# Altium footprint library MWKbasic1.PcbLib: 42 footprints (part 1 of 3)
Each footprint in its own frame and in the unit in brackets; x right, y up, seen from the top. Pads: shape width x height; smd on the part's side, far side on the other; paste and mask are expansions set on the pad; w line width, h text height; cw(c..) or ccw(c..) is an arc to the next point about the centre after c.
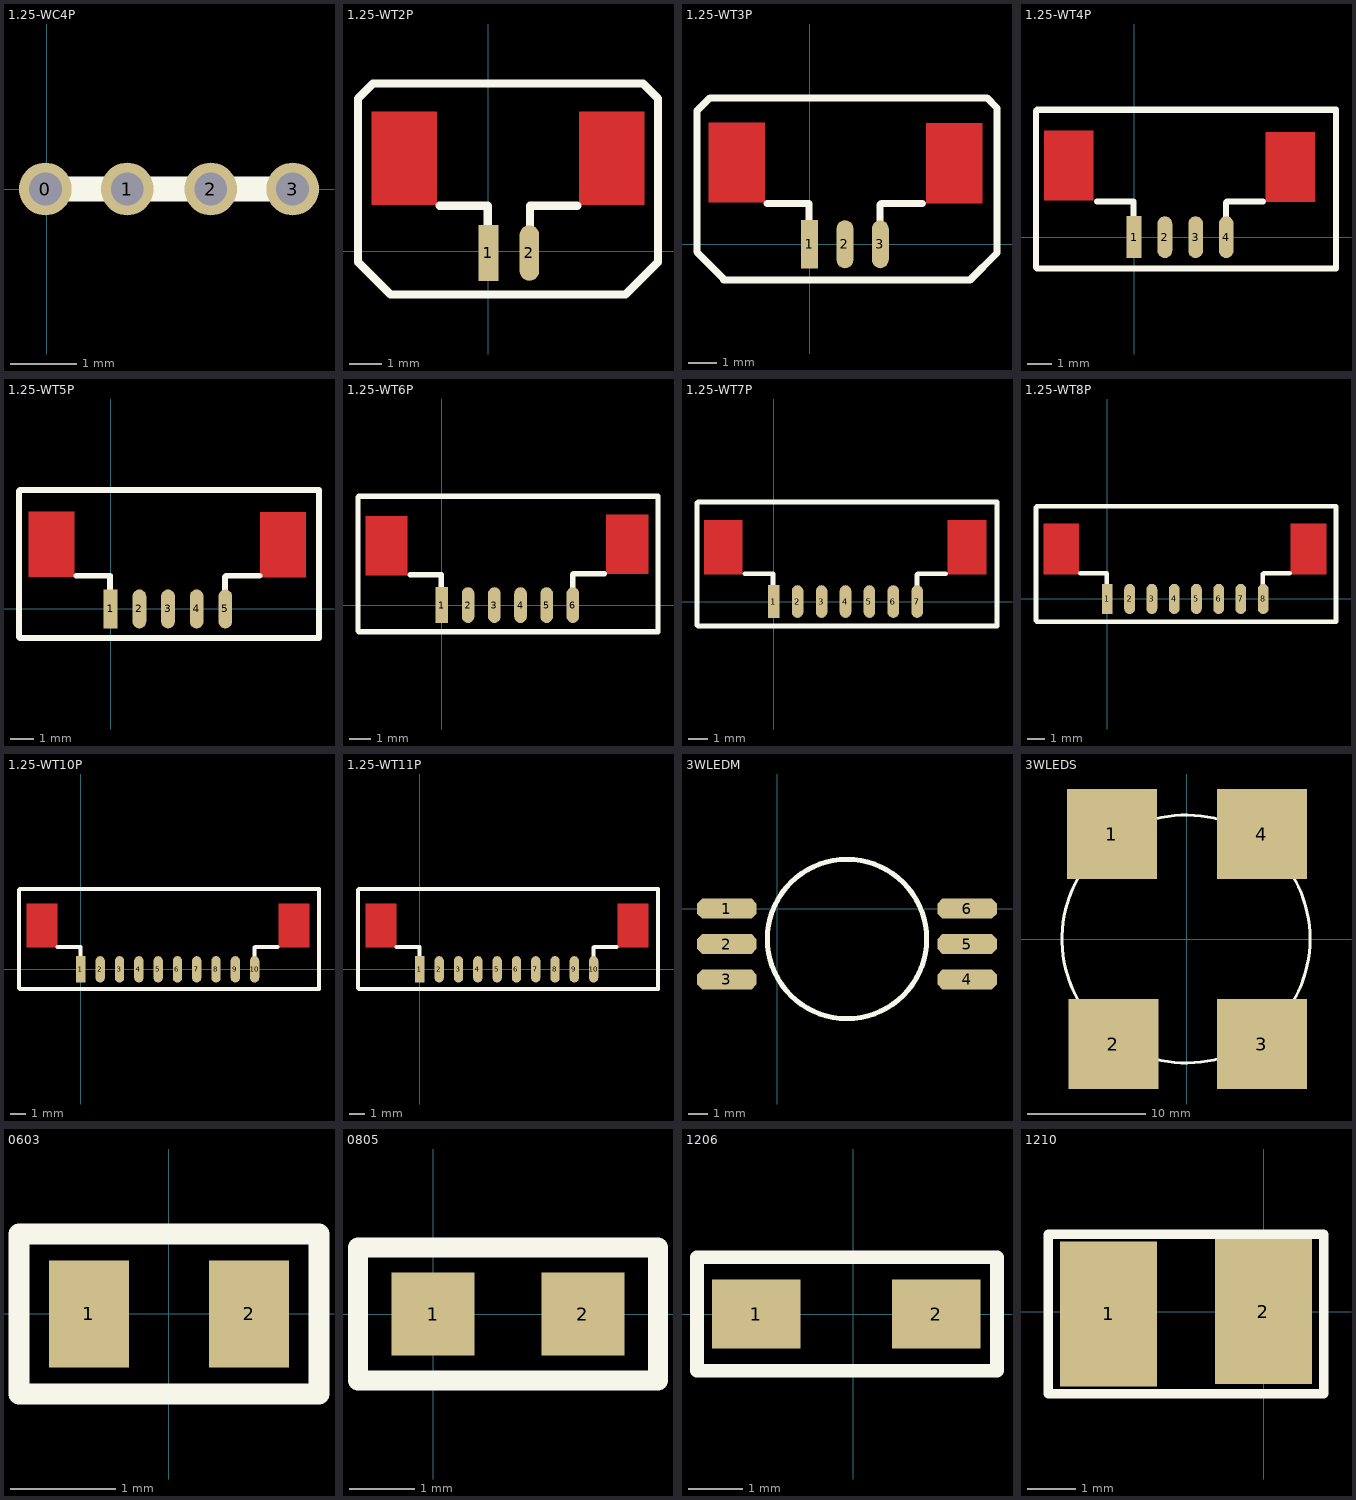
[diagram p0: the footprints below, top view; thin cyan lines are the x and y axes]

## 1.25-WC4P [mm]
pads (4):
  round 0.8 hole 0.5: 0(-0.025,0) 1(1.219,0) 2(2.489,0) 3(3.734,0)
Top Overlay:
  lines w0.381: -0.025,0 3.759,0 3.785,0.025

## 1.25-WT2P [mm]
pads (2):
  rect 0.6x1.7 smd: 1(0,-0.051)
  oval 0.6x1.7 smd: 2(1.25,-0.051)
Top Layer:
  rectangle: -3.581,1.422 -1.575,4.267
  rectangle: 2.769,1.422 4.775,4.267
Top Overlay:
  lines w0.254: -1.499,1.397 -0.051,1.397 ; -0.025,0 -0.025,1.397 ; 1.27,0 1.27,1.397 2.718,1.397 ; -3.988,-0.33 -3.988,4.674 -3.531,5.131 4.724,5.131 5.182,4.674 5.182,-0.33 4.191,-1.321 -2.997,-1.321 -3.988,-0.33
Top Solder:
  rectangle: -3.581,1.422 -1.575,4.267
  rectangle: 2.769,1.422 4.775,4.267

## 1.25-WT3P [mm]
pads (3):
  rect 0.6x1.7 smd: 1(0,0)
  oval 0.6x1.7 smd: 2(1.25,0) 3(2.5,0)
Top Layer:
  rectangle: 4.115,1.448 6.121,4.293
  rectangle: -3.581,1.473 -1.575,4.318
Top Overlay:
  lines w0.254: -3.048,-1.27 5.664,-1.27 6.629,-0.305 6.629,4.826 6.274,5.182 -3.531,5.182 -3.988,4.724 -3.988,-0.279 -3.048,-1.219 ; -1.499,1.448 -0.051,1.448 ; -0.025,0.051 -0.025,1.448 ; 2.489,0 2.489,1.397 2.54,1.448 3.988,1.448
Top Solder:
  rectangle: 4.115,1.448 6.121,4.293
  rectangle: -3.581,1.473 -1.575,4.318

## 1.25-WT4P [mm]
pads (4):
  rect 0.6x1.7 smd: 1(0,0)
  oval 0.6x1.7 smd: 2(1.25,0) 3(2.5,0) 4(3.745,0)
Top Layer:
  rectangle: 5.334,1.422 7.341,4.267
  rectangle: -3.658,1.499 -1.651,4.343
Top Overlay:
  lines w0.254: -1.499,1.448 -0.051,1.448 ; -0.025,0.051 -0.025,1.448 ; 3.734,0 3.734,1.397 3.785,1.448 5.232,1.448 ; -3.988,-1.219 -3.988,5.131 -3.937,5.182 7.722,5.182 8.204,5.182 8.204,-1.27 -3.937,-1.27 -3.988,-1.219
Top Solder:
  rectangle: 5.334,1.422 7.341,4.267
  rectangle: -3.658,1.499 -1.651,4.343

## 1.25-WT5P [mm]
pads (5):
  rect 0.6x1.7 smd: 1(0,0)
  oval 0.6x1.7 smd: 2(1.25,0) 3(2.5,0) 4(3.745,0) 5(4.989,0)
Top Layer:
  rectangle: 6.502,1.372 8.509,4.216
  rectangle: -3.581,1.397 -1.575,4.242
Top Overlay:
  lines w0.254: -1.499,1.448 -0.051,1.448 ; -0.025,0.051 -0.025,1.448 ; 4.978,0 4.978,1.397 5.029,1.448 6.477,1.448 ; -3.988,-1.219 -3.937,-1.27 9.068,-1.27 9.068,5.182 7.722,5.182 -3.937,5.182 -3.988,5.131 -3.988,-1.219
Top Solder:
  rectangle: 6.502,1.372 8.509,4.216
  rectangle: -3.581,1.397 -1.575,4.242

## 1.25-WT6P [mm]
pads (6):
  rect 0.6x1.7 smd: 1(0,0)
  oval 0.6x1.7 smd: 2(1.25,0) 3(2.5,0) 4(3.745,0) 5(4.989,0) 6(6.234,0)
Top Layer:
  rectangle: -3.632,1.397 -1.626,4.242
  rectangle: 7.823,1.473 9.83,4.318
Top Overlay:
  lines w0.254: -1.499,1.448 -0.051,1.448 ; -0.025,0.051 -0.025,1.448 ; 6.223,0.051 6.223,1.448 6.274,1.499 7.722,1.499 ; -3.988,-1.219 -3.937,-1.27 10.287,-1.27 10.287,5.182 7.722,5.182 -3.937,5.182 -3.988,5.131 -3.988,-1.219
Top Solder:
  rectangle: -3.632,1.397 -1.626,4.242
  rectangle: 7.823,1.473 9.83,4.318

## 1.25-WT7P [mm]
pads (7):
  rect 0.6x1.7 smd: 1(0,0)
  oval 0.6x1.7 smd: 2(1.25,0) 3(2.5,0) 4(3.745,0) 5(4.989,0) 6(6.234,0) 7(7.478,0)
Top Layer:
  rectangle: -3.632,1.397 -1.626,4.242
  rectangle: 9.068,1.397 11.074,4.242
Top Overlay:
  lines w0.254: -1.499,1.448 -0.051,1.448 ; -0.025,0.051 -0.025,1.448 ; 7.468,0 7.468,1.397 7.518,1.448 8.966,1.448 ; -3.988,-1.219 -3.937,-1.27 11.633,-1.27 11.633,5.182 7.722,5.182 -3.937,5.182 -3.988,5.131 -3.988,-1.219
Top Solder:
  rectangle: -3.632,1.397 -1.626,4.242
  rectangle: 9.068,1.397 11.074,4.242

## 1.25-WT8P [mm]
pads (8):
  rect 0.6x1.7 smd: 1(0,0)
  oval 0.6x1.7 smd: 2(1.25,0) 3(2.5,0) 4(3.745,0) 5(4.989,0) 6(6.234,0) 7(7.478,0) 8(8.723,0)
Top Layer:
  rectangle: 10.262,1.372 12.268,4.216
  rectangle: -3.581,1.372 -1.575,4.216
Top Overlay:
  lines w0.254: -1.499,1.448 -0.051,1.448 ; -0.025,0.051 -0.025,1.448 ; 8.712,0 8.712,1.397 8.763,1.448 10.211,1.448 ; -3.988,-1.219 -3.937,-1.27 12.802,-1.27 12.802,5.182 7.722,5.182 -3.937,5.182 -3.988,5.131 -3.988,-1.219
Top Solder:
  rectangle: 10.262,1.372 12.268,4.216
  rectangle: -3.581,1.372 -1.575,4.216

## 1.25-WT10P [mm]
pads (10):
  rect 0.6x1.7 smd: 1(0,0)
  oval 0.6x1.7 smd: 2(1.25,0) 3(2.5,0) 4(3.745,0) 5(4.989,0) 6(6.234,0) 7(7.478,0) 8(8.723,0) 9(9.968,0) 10(11.212,0)
Top Layer:
  rectangle: -3.505,1.397 -1.499,4.242
  rectangle: 12.751,1.397 14.757,4.242
Top Overlay:
  lines w0.254: -1.499,1.448 -0.051,1.448 ; -0.025,0.051 -0.025,1.448 ; 11.201,0 11.201,1.397 11.252,1.448 12.7,1.448 ; -3.988,-1.219 -3.988,5.131 -3.937,5.182 7.722,5.182 15.367,5.182 15.367,-1.27 -3.937,-1.27 -3.988,-1.219
Top Solder:
  rectangle: -3.505,1.397 -1.499,4.242
  rectangle: 12.751,1.397 14.757,4.242

## 1.25-WT11P [mm]
pads (10):
  rect 0.6x1.7 smd: 1(0,0)
  oval 0.6x1.7 smd: 2(1.25,0) 3(2.5,0) 4(3.745,0) 5(4.989,0) 6(6.234,0) 7(7.478,0) 8(8.723,0) 9(9.968,0) 10(11.212,0)
Top Layer:
  rectangle: -3.505,1.397 -1.499,4.242
  rectangle: 12.751,1.397 14.757,4.242
Top Overlay:
  lines w0.254: -1.499,1.448 -0.051,1.448 ; -0.025,0.051 -0.025,1.448 ; 11.201,0 11.201,1.397 11.252,1.448 12.7,1.448 ; -3.988,-1.219 -3.988,5.131 -3.937,5.182 7.722,5.182 15.367,5.182 15.367,-1.27 -3.937,-1.27 -3.988,-1.219
Top Solder:
  rectangle: -3.505,1.397 -1.499,4.242
  rectangle: 12.751,1.397 14.757,4.242

## 3WLEDM [mm] "RGBLED"
pads (6):
  oct 3x1 smd: 1(-2.54,0) 2(-2.54,-1.778) 3(-2.54,-3.556) 4(9.525,-3.556) 5(9.525,-1.778) 6(9.525,0)
Top Overlay:
  circle w0.254: c3.493,-1.524 r4

## 3WLEDS [mil] "3WLED-21"
height 196.85
pads (4):
  rect 300x300 smd: 1(-250,350) 2(-245,-350) 3(250,-350) 4(250,350)
Top Overlay:
  circle w10: c-2.63,0 r413.39

## 0603 [mil]
pads (2):
  rect 30x40 smd: 1(-30,0) 2(30,0)
Top Overlay:
  lines w7.87: 56.14,-30.04 56.14,30 -56.14,30 -56.14,-30 56.14,-30

## 0805 [mil]
pads (2):
  rect 50x50 smd: 1(0,0) 2(90,0)
Top Overlay:
  lines w12: -45,-40 -45,40 135,40 135,-40 -45,-40

## 1206 [mil]
pads (2):
  rect 64x50 smd: 1(-70,0) 2(60,0)
Top Overlay:
  lines w10: -113,-41 104,-41 104,41 -113,41 -113,-41

## 1210 [mm]
height 1.1
pads (2):
  rect 2x3 smd: 1(-3.204,-0.048) 2(-0.004,0.002)
Top Overlay:
  lines w0.2: -4.454,-1.698 1.246,-1.698 ; -4.454,-1.648 -4.454,1.552 ; -4.454,1.602 1.246,1.602 ; 1.246,-1.648 1.246,1.552